# EAGLE library part MC68450 (library Custom)
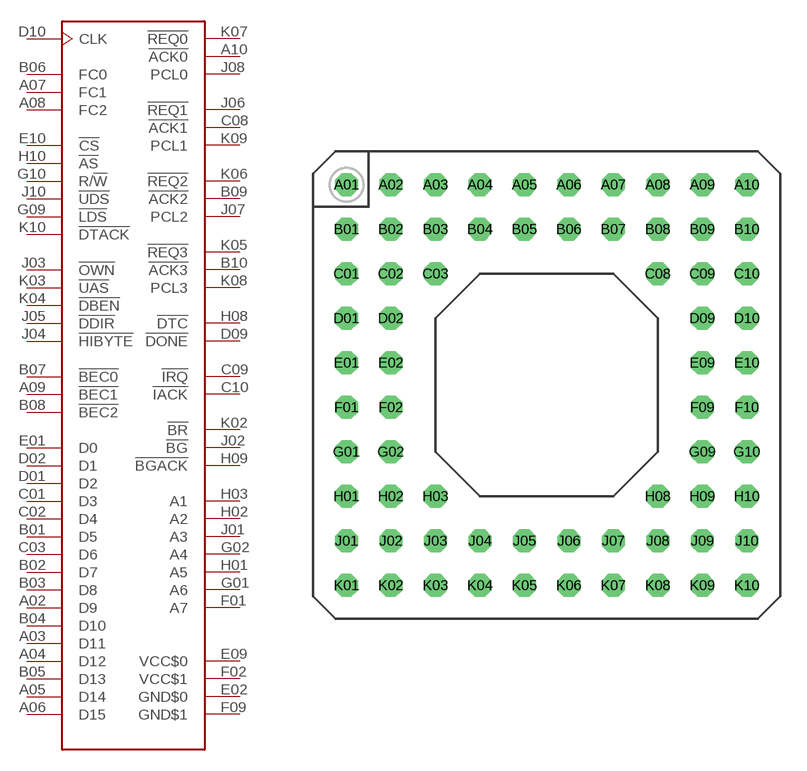
[diagram p33: symbol with the pads of MPGA68; footprint MPGA68]

Designator prefix -

## MC68450  [MPGA68]
A02  D9
A03  D11
A04  D12
A05  D14
A06  D15
A07  FC1
A08  FC2
A09  !BEC1
A10  !ACK0
B01  D5
B02  D7
B03  D8
B04  D10
B05  D13
B06  FC0
B07  !BEC0
B08  !BEC2
B09  !ACK2
B10  !ACK3
C01  D3
C02  D4
C03  D6
C08  !ACK1
C09  !IRQ
C10  !IACK
D01  D2
D02  D1
D09  !DONE
D10  CLK  in
E01  D0
E02  GND$0
E09  VCC$0
E10  !CS
F01  A7
F02  VCC$1
F09  GND$1
G01  A6
G02  A4
G09  !LDS
G10  R/!W
H01  A5
H02  A2
H03  A1
H08  !DTC
H09  !BGACK
H10  !AS
J01  A3
J02  !BG
J03  !OWN
J04  !HIBYTE
J05  !DDIR
J06  !REQ1
J07  PCL2
J08  PCL0
J10  !UDS
K02  !BR
K03  !UAS
K04  !DBEN
K05  !REQ3
K06  !REQ2
K07  !REQ0
K08  PCL3
K09  PCL1
K10  !DTACK

## Footprint MPGA68 (pad centres in mm)
micro Ball Grid Array
drill 0.813 octagon: A01 -11.43,11.43; A02 -8.89,11.43; A03 -6.35,11.43; A04 -3.81,11.43; A05 -1.27,11.43; A06 1.27,11.43; A07 3.81,11.43; A08 6.35,11.43; A09 8.89,11.43; A10 11.43,11.43; B01 -11.43,8.89; B02 -8.89,8.89; B03 -6.35,8.89; B04 -3.81,8.89; B05 -1.27,8.89; B06 1.27,8.89; B07 3.81,8.89; B08 6.35,8.89; B09 8.89,8.89; B10 11.43,8.89; C01 -11.43,6.35; C02 -8.89,6.35; C03 -6.35,6.35; C08 6.35,6.35; C09 8.89,6.35; C10 11.43,6.35; D01 -11.43,3.81; D02 -8.89,3.81; D09 8.89,3.81; D10 11.43,3.81; E01 -11.43,1.27; E02 -8.89,1.27; E09 8.89,1.27; E10 11.43,1.27; F01 -11.43,-1.27; F02 -8.89,-1.27; F09 8.89,-1.27; F10 11.43,-1.27; G01 -11.43,-3.81; G02 -8.89,-3.81; G09 8.89,-3.81; G10 11.43,-3.81; H01 -11.43,-6.35; H02 -8.89,-6.35; H03 -6.35,-6.35; H08 6.35,-6.35; H09 8.89,-6.35; H10 11.43,-6.35; J01 -11.43,-8.89; J02 -8.89,-8.89; J03 -6.35,-8.89; J04 -3.81,-8.89; J05 -1.27,-8.89; J06 1.27,-8.89; J07 3.81,-8.89; J08 6.35,-8.89; J09 8.89,-8.89; J10 11.43,-8.89; K01 -11.43,-11.43; K02 -8.89,-11.43; K03 -6.35,-11.43; K04 -3.81,-11.43; K05 -1.27,-11.43; K06 1.27,-11.43; K07 3.81,-11.43; K08 6.35,-11.43; K09 8.89,-11.43; K10 11.43,-11.43